# EAGLE library part TINY24/44/84 (library atmel_misc)
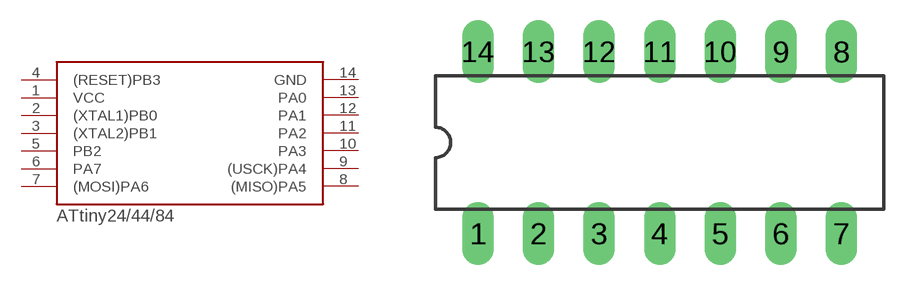
[diagram p0: symbol with the pads of DIL14; footprint DIL14]

Designator prefix -

## TINY24/44/84  [DIL14]
1  VCC
2  (XTAL1)PB0
3  (XTAL2)PB1
4  (RESET)PB3
5  PB2
6  PA7
7  (MOSI)PA6
8  (MISO)PA5
9  (USCK)PA4
10  PA3
11  PA2
12  PA1
13  PA0
14  GND

## Footprint DIL14 (pad centres in mm)
Dual In Line
drill 0.813 long: 1 -11.43,-3.81; 2 -8.89,-3.81; 3 -6.35,-3.81; 4 -3.81,-3.81; 5 -1.27,-3.81; 6 1.27,-3.81; 7 3.81,-3.81; 8 3.81,3.81; 9 1.27,3.81; 10 -1.27,3.81; 11 -3.81,3.81; 12 -6.35,3.81; 13 -8.89,3.81; 14 -11.43,3.81